# Altium footprint library 6903 6817 xx 72.PcbLib: 12 footprints
Each footprint in its own frame and in the unit in brackets; x right, y up, seen from the top. Pads: shape width x height; smd on the part's side, far side on the other; paste and mask are expansions set on the pad; w line width, h text height; cw(c..) or ccw(c..) is an arc to the next point about the centre after c.
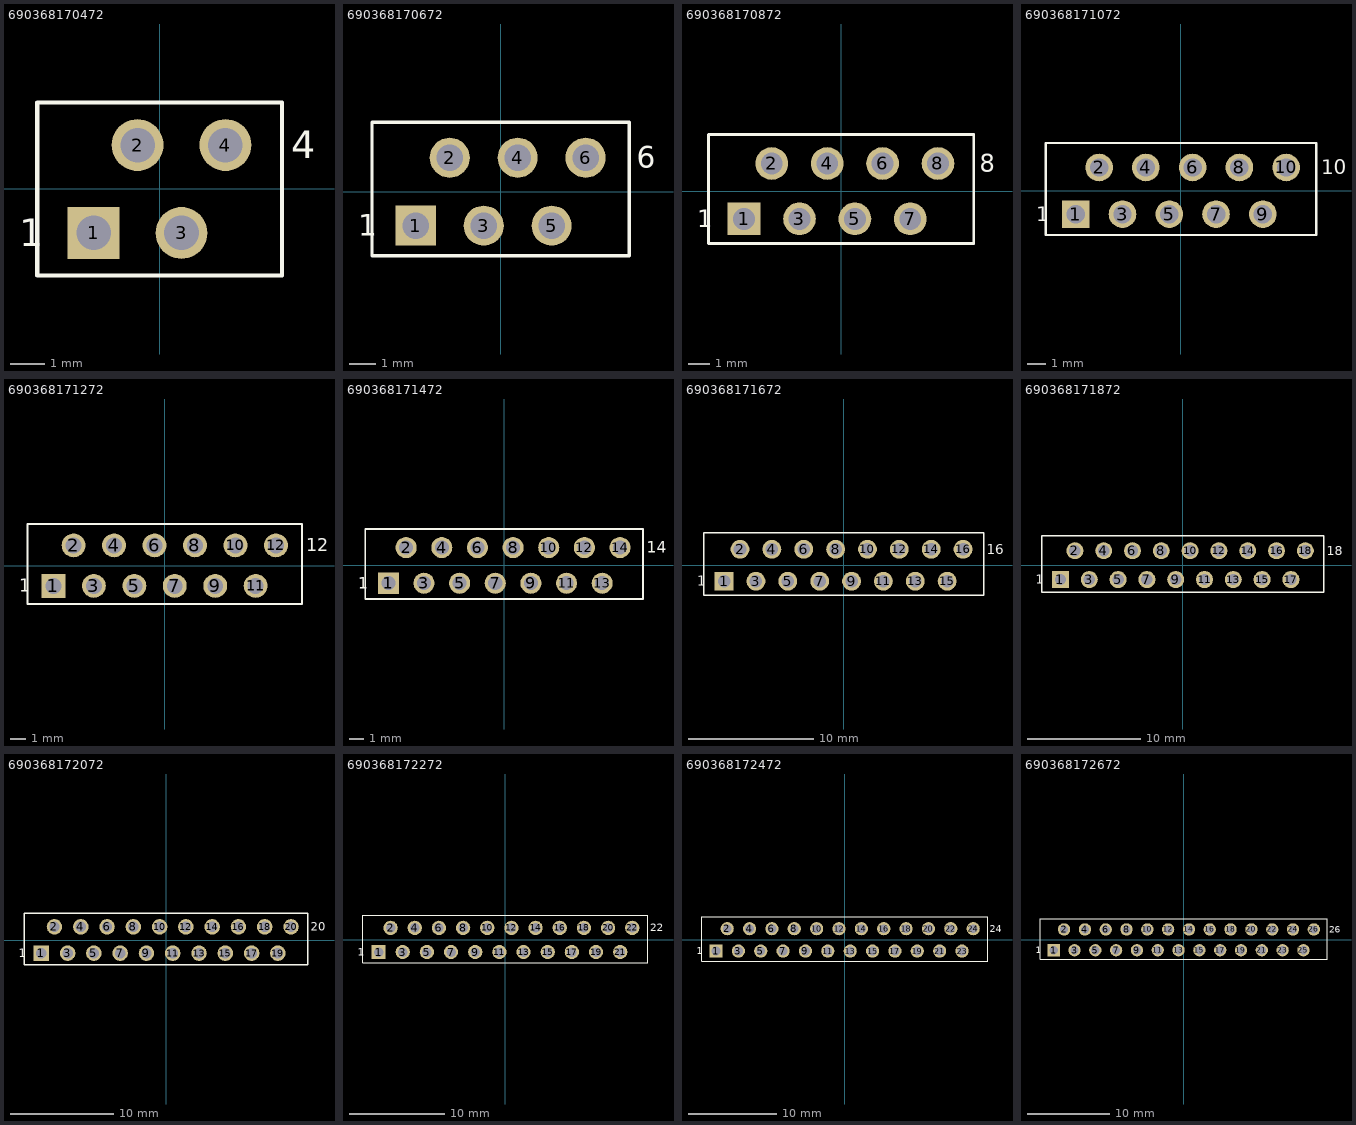
[diagram p0: the footprints below, top view; thin cyan lines are the x and y axes]

## 690368170472 [mm] "without Latch, 4 pins, right angled"
height 5.8
pads (4):
  rect 1.5x1.5 hole 1: 1(-1.905,-1.27)
  round 1.5 hole 1: 2(-0.635,1.27) 3(0.635,-1.27) 4(1.905,1.27)
Top Overlay:
  lines w0.127: -3.54,-2.5 3.54,-2.5 3.54,2.5 -3.54,2.5 -3.54,-2.5
  text "1" at -4.064,-1.651 h0.8
  text "4" at 3.81,0.889 h0.8
3D body: height 5.9, standoff -3, extent -3.54,-2.5 3.54,2.5

## 690368170672 [mm] "without Latch, 6 pins, right angled"
height 5.8
pads (6):
  rect 1.5x1.5 hole 1: 1(-3.175,-1.27)
  round 1.5 hole 1: 2(-1.905,1.27) 3(-0.635,-1.27) 4(0.635,1.27) 5(1.905,-1.27) 6(3.175,1.27)
Top Overlay:
  lines w0.127: -4.81,-2.4 4.81,-2.4 4.81,2.6 -4.81,2.6 -4.81,-2.4
  text "6" at 5.08,0.889 h0.8
  text "1" at -5.334,-1.651 h0.8
3D body: height 5.9, standoff -3, extent -4.81,-2.4 4.81,2.6

## 690368170872 [mm] "without Latch, 8 pins, right angled"
height 5.8
pads (8):
  rect 1.5x1.5 hole 1: 1(-4.445,-1.27)
  round 1.5 hole 1: 2(-3.175,1.27) 3(-1.905,-1.27) 4(-0.635,1.27) 5(0.635,-1.27) 6(1.905,1.27) 7(3.175,-1.27) 8(4.445,1.27)
Top Overlay:
  lines w0.127: -6.08,-2.4 6.08,-2.4 6.08,2.6 -6.08,2.6 -6.08,-2.4
  text "1" at -6.604,-1.651 h0.8
  text "8" at 6.35,0.889 h0.8
3D body: height 5.9, standoff -3, extent -6.08,-2.4 6.08,2.6

## 690368171072 [mm] "without Latch, 10 pins, right angled"
height 5.8
pads (10):
  rect 1.5x1.5 hole 1: 1(-5.715,-1.27)
  round 1.5 hole 1: 2(-4.445,1.27) 3(-3.175,-1.27) 4(-1.905,1.27) 5(-0.635,-1.27) 6(0.635,1.27) 7(1.905,-1.27) 8(3.175,1.27) 9(4.445,-1.27) 10(5.715,1.27)
Top Overlay:
  lines w0.127: -7.35,-2.4 7.35,-2.4 7.35,2.6 -7.35,2.6 -7.35,-2.4
  text "1" at -7.874,-1.651 h0.8
  text "10" at 7.62,0.889 h0.8
3D body: height 5.9, standoff -3, extent -7.351,-2.4 7.352,2.6

## 690368171272 [mm] "without Latch, 12 pins, right angled"
height 5.8
pads (12):
  rect 1.5x1.5 hole 1: 1(-6.985,-1.27)
  round 1.5 hole 1: 2(-5.715,1.27) 3(-4.445,-1.27) 4(-3.175,1.27) 5(-1.905,-1.27) 6(-0.635,1.27) 7(0.635,-1.27) 8(1.905,1.27) 9(3.175,-1.27) 10(4.445,1.27) 11(5.715,-1.27) 12(6.985,1.27)
Top Overlay:
  lines w0.127: -8.62,-2.4 -8.62,2.6 8.62,2.6 8.62,-2.4 -8.62,-2.4
  text "12" at 8.89,0.889 h0.8
  text "1" at -9.144,-1.651 h0.8
3D body: height 5.9, standoff -3, extent -8.62,-2.4 8.62,2.6

## 690368171472 [mm] "without Latch, 14 pins, right angled"
height 5.8
pads (14):
  rect 1.5x1.5 hole 1: 1(-8.255,-1.27)
  round 1.5 hole 1: 2(-6.985,1.27) 3(-5.715,-1.27) 4(-4.445,1.27) 5(-3.175,-1.27) 6(-1.905,1.27) 7(-0.635,-1.27) 8(0.635,1.27) 9(1.905,-1.27) 10(3.175,1.27) 11(4.445,-1.27) 12(5.715,1.27) 13(6.985,-1.27) 14(8.255,1.27)
Top Overlay:
  lines w0.127: -9.89,-2.4 9.89,-2.4 9.89,2.6 -9.89,2.6 -9.89,-2.4
  text "14" at 10.16,0.889 h0.8
  text "1" at -10.414,-1.651 h0.8
3D body: height 5.9, standoff -3, extent -9.89,-2.4 9.89,2.6

## 690368171672 [mm] "without Latch, 16 pins, right angled"
height 5.8
pads (16):
  rect 1.5x1.5 hole 1: 1(-9.525,-1.27)
  round 1.5 hole 1: 2(-8.255,1.27) 3(-6.985,-1.27) 4(-5.715,1.27) 5(-4.445,-1.27) 6(-3.175,1.27) 7(-1.905,-1.27) 8(-0.635,1.27) 9(0.635,-1.27) 10(1.905,1.27) 11(3.175,-1.27) 12(4.445,1.27) 13(5.715,-1.27) 14(6.985,1.27) 15(8.255,-1.27) 16(9.525,1.27)
Top Overlay:
  lines w0.127: -11.16,-2.4 -11.16,2.6 11.16,2.6 11.16,-2.4 -11.16,-2.4
  text "16" at 11.43,0.889 h0.8
  text "1" at -11.684,-1.651 h0.8
3D body: height 5.9, standoff -3, extent -11.16,-2.4 11.16,2.6

## 690368171872 [mm] "without Latch, 18 pins, right angled"
height 5.8
pads (18):
  rect 1.5x1.5 hole 1: 1(-10.795,-1.27)
  round 1.5 hole 1: 2(-9.525,1.27) 3(-8.255,-1.27) 4(-6.985,1.27) 5(-5.715,-1.27) 6(-4.445,1.27) 7(-3.175,-1.27) 8(-1.905,1.27) 9(-0.635,-1.27) 10(0.635,1.27) 11(1.905,-1.27) 12(3.175,1.27) 13(4.445,-1.27) 14(5.715,1.27) 15(6.985,-1.27) 16(8.255,1.27) 17(9.525,-1.27) 18(10.795,1.27)
Top Overlay:
  lines w0.127: -12.43,-2.4 12.43,-2.4 12.43,2.6 -12.43,2.6 -12.43,-2.4
  text "1" at -12.954,-1.651 h0.8
  text "18" at 12.7,0.889 h0.8
3D body: height 5.9, standoff -3, extent -12.43,-2.4 12.43,2.6

## 690368172072 [mm] "without Latch, 20 pins, right angled"
height 5.8
pads (20):
  rect 1.5x1.5 hole 1: 1(-12.065,-1.27)
  round 1.5 hole 1: 2(-10.795,1.27) 3(-9.525,-1.27) 4(-8.255,1.27) 5(-6.985,-1.27) 6(-5.715,1.27) 7(-4.445,-1.27) 8(-3.175,1.27) 9(-1.905,-1.27) 10(-0.635,1.27) 11(0.635,-1.27) 12(1.905,1.27) 13(3.175,-1.27) 14(4.445,1.27) 15(5.715,-1.27) 16(6.985,1.27) 17(8.255,-1.27) 18(9.525,1.27) 19(10.795,-1.27) 20(12.065,1.27)
Top Overlay:
  lines w0.127: -13.7,-2.4 -13.7,2.6 13.7,2.6 13.7,-2.4 -13.7,-2.4
  text "1" at -14.224,-1.651 h0.8
  text "20" at 13.97,0.889 h0.8
3D body: height 5.9, standoff -3, extent -13.7,-2.4 13.7,2.6

## 690368172272 [mm] "without Latch, 22 pins, right angled"
height 5.8
pads (22):
  rect 1.5x1.5 hole 1: 1(-13.335,-1.27)
  round 1.5 hole 1: 2(-12.065,1.27) 3(-10.795,-1.27) 4(-9.525,1.27) 5(-8.255,-1.27) 6(-6.985,1.27) 7(-5.715,-1.27) 8(-4.445,1.27) 9(-3.175,-1.27) 10(-1.905,1.27) 11(-0.635,-1.27) 12(0.635,1.27) 13(1.905,-1.27) 14(3.175,1.27) 15(4.445,-1.27) 16(5.715,1.27) 17(6.985,-1.27) 18(8.255,1.27) 19(9.525,-1.27) 20(10.795,1.27) 21(12.065,-1.27) 22(13.335,1.27)
Top Overlay:
  lines w0.127: -14.97,-2.4 14.97,-2.4 14.97,2.6 -14.97,2.6 -14.97,-2.4
  text "22" at 15.24,0.889 h0.8
  text "1" at -15.494,-1.651 h0.8
3D body: height 5.9, standoff -3, extent -14.97,-2.4 14.97,2.6

## 690368172472 [mm] "without Latch, 24 pins, right angled"
height 5.8
pads (24):
  rect 1.5x1.5 hole 1: 1(-14.605,-1.27)
  round 1.5 hole 1: 2(-13.335,1.27) 3(-12.065,-1.27) 4(-10.795,1.27) 5(-9.525,-1.27) 6(-8.255,1.27) 7(-6.985,-1.27) 8(-5.715,1.27) 9(-4.445,-1.27) 10(-3.175,1.27) 11(-1.905,-1.27) 12(-0.635,1.27) 13(0.635,-1.27) 14(1.905,1.27) 15(3.175,-1.27) 16(4.445,1.27) 17(5.715,-1.27) 18(6.985,1.27) 19(8.255,-1.27) 20(9.525,1.27) 21(10.795,-1.27) 22(12.065,1.27) 23(13.335,-1.27) 24(14.605,1.27)
Top Overlay:
  lines w0.127: -16.24,-2.4 16.24,-2.4 16.24,2.6 -16.24,2.6 -16.24,-2.4
  text "1" at -16.764,-1.651 h0.8
  text "24" at 16.51,0.889 h0.8
3D body: height 5.9, standoff -3, extent -16.24,-2.4 16.24,2.6

## 690368172672 [mm] "without Latch, 26 pins, right angled"
height 5.8
pads (26):
  rect 1.5x1.5 hole 1: 1(-15.875,-1.27)
  round 1.5 hole 1: 2(-14.605,1.27) 3(-13.335,-1.27) 4(-12.065,1.27) 5(-10.795,-1.27) 6(-9.525,1.27) 7(-8.255,-1.27) 8(-6.985,1.27) 9(-5.715,-1.27) 10(-4.445,1.27) 11(-3.175,-1.27) 12(-1.905,1.27) 13(-0.635,-1.27) 14(0.635,1.27) 15(1.905,-1.27) 16(3.175,1.27) 17(4.445,-1.27) 18(5.715,1.27) 19(6.985,-1.27) 20(8.255,1.27) 21(9.525,-1.27) 22(10.795,1.27) 23(12.065,-1.27) 24(13.335,1.27) 25(14.605,-1.27) 26(15.875,1.27)
Top Overlay:
  lines w0.127: -17.51,-2.4 17.51,-2.4 17.51,2.6 -17.51,2.6 -17.51,-2.4
  text "1" at -18.034,-1.651 h0.8
  text "26" at 17.78,0.889 h0.8
3D body: height 5.9, standoff -3, extent -17.51,-2.4 17.51,2.6